# EAGLE library part VL53L0CXV0DH/1 (library mille-feuille)
Time-of-Flight ranging and gesture detection sensor
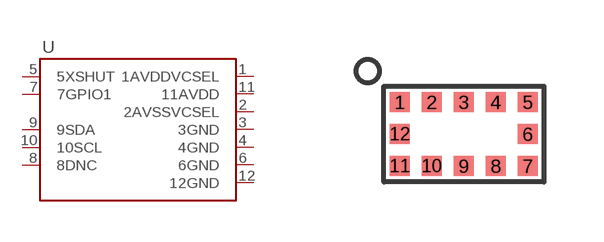
[diagram p33: symbol with the pads of VL53L0CXV0DH/1; footprint VL53L0CXV0DH/1]

Designator prefix U

## VL53L0CXV0DH/1  [VL53L0CXV0DH/1]
1  1AVDDVCSEL
2  2AVSSVCSEL
3  3GND
4  4GND
5  5XSHUT
6  6GND
7  7GPIO1
8  8DNC
9  9SDA
10  10SCL
11  11AVDD
12  12GND

## Footprint VL53L0CXV0DH/1 (pad centres in mm)
smd 0.5 x 0.5: 1 -1.6,0.8; 2 -0.8,0.8; 3 0,0.8; 4 0.8,0.8; 5 1.6,0.8; 6 1.6,0; 7 1.6,-0.8; 8 0.8,-0.8; 9 0,-0.8; 10 -0.8,-0.8; 11 -1.6,-0.8; 12 -1.6,0